# EAGLE library part TB0010-500-06GR (library TB0010-500-06GR)
6 Position Wire to Board Terminal Block Horizontal with Board 0.197" (5.00mm) Through Hole Source: Datasheet <https://www.cuidevices.com/product/resource/tb0010-500.pdf>
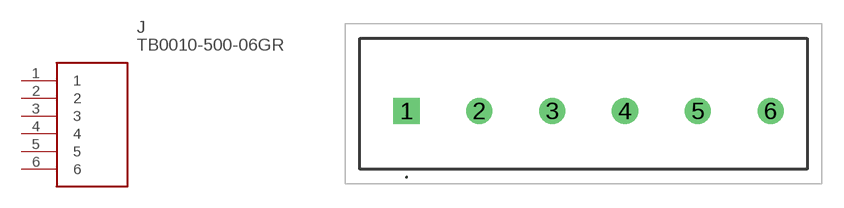
[diagram p0: symbol with the pads of TB001050006GR; footprint TB001050006GR]

Designator prefix J

## TB0010-500-06GR (Description: 6 Position Wire to Board Terminal Block Horizontal with Board 0.197" (5.00mm) Through Hole; Height: 13mm; Manufacturer_Name: CUI Devices; Manufacturer_Part_Number: TB0010-500-06GR; Mouser_Part_Number: 179-TB0010-500-06GR; Mouser_Price-Stock: https://www.mouser.co.uk/ProductDetail/CUI-Devices/TB0010-500-06GR?qs=HoCaDK9Nz5cKKGI8GxqoLQ%3D%3D)  [TB001050006GR]
1  1
2  2
3  3
4  4
5  5
6  6

## Footprint TB001050006GR (pad centres in mm)
TB0010-500-06GR-1
drill 1.2 pad 1.8 square: 1 0,0
drill 1.2 pad 1.8: 2 5,0; 3 10,0; 4 15,0; 5 20,0; 6 25,0